# Altium footprint library DO-214AB-SMC.PcbLib: 1 footprints
Each footprint in its own frame and in the unit in brackets; x right, y up, seen from the top. Pads: shape width x height; smd on the part's side, far side on the other; paste and mask are expansions set on the pad; w line width, h text height; cw(c..) or ccw(c..) is an arc to the next point about the centre after c.
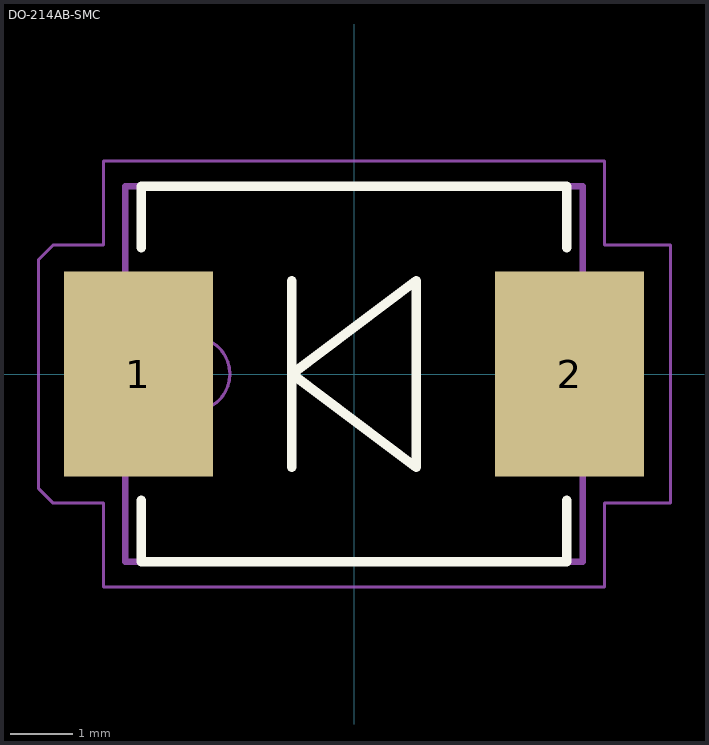
[diagram p0: the footprint, top view; thin cyan lines are the x and y axes]

## DO-214AB-SMC [mm] "DO-214-AB/SMC; 2 C-Bend Leads; Body 7.9 x 5.9 mm, inc. leads (LxW)"
height 2.65
pads (2):
  rect 2.4x3.3 smd: 1(-3.475,0) 2(3.475,0)
Top Overlay:
  lines w0.152: -3.429,-2.032 -3.429,-3.023 3.429,-3.023 3.429,-2.032 ; -3.429,2.032 -3.429,3.023 3.429,3.023 3.429,2.032 ; -1,-1.5 -1,1.5 ; -1,0 1,-1.5 1,1.5 -1,0
Mechanical 13:
  circle w0.05: c-2.6,0 r0.6
  lines w0.1: -3.683,-3.023 -3.683,3.023 3.683,3.023 3.683,-3.023 -3.683,-3.023
Mechanical 15:
  lines w0.05: -5.08,-1.847 -4.853,-2.076 -4.037,-2.076 -4.037,-3.429 4.037,-3.429 4.037,-2.076 5.101,-2.076 5.101,2.076 4.037,2.076 4.037,3.429 -4.037,3.429 -4.037,2.076 -4.848,2.076 -5.08,1.844 -5.08,-1.847
3D body: height 2.55, standoff 0.05, extent -3.629,-2.953 3.683,2.952